# EAGLE library part AAT1217 (library Skyworks)
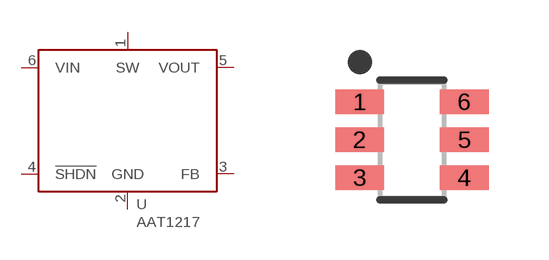
[diagram p0: symbol with the pads of TSOT-23-6; footprint TSOT-23-6]

Designator prefix U

## AAT1217ICA-3.3-T1  [TSOT-23-6]
1  SW
2  GND
3  FB
4  !SHDN
5  VOUT
6  VIN

## Footprint TSOT-23-6 (pad centres in mm)
smd 1.22 x 0.62: 1 -1.31,0.95; 2 -1.31,0; 3 -1.31,-0.95; 4 1.31,-0.95; 5 1.31,0; 6 1.31,0.95